# Altium schematic symbol library ДИОДЫ-MM.SchLib: 57 symbols
Pins are listed as number, name and electrical type; pins without a type are passive.

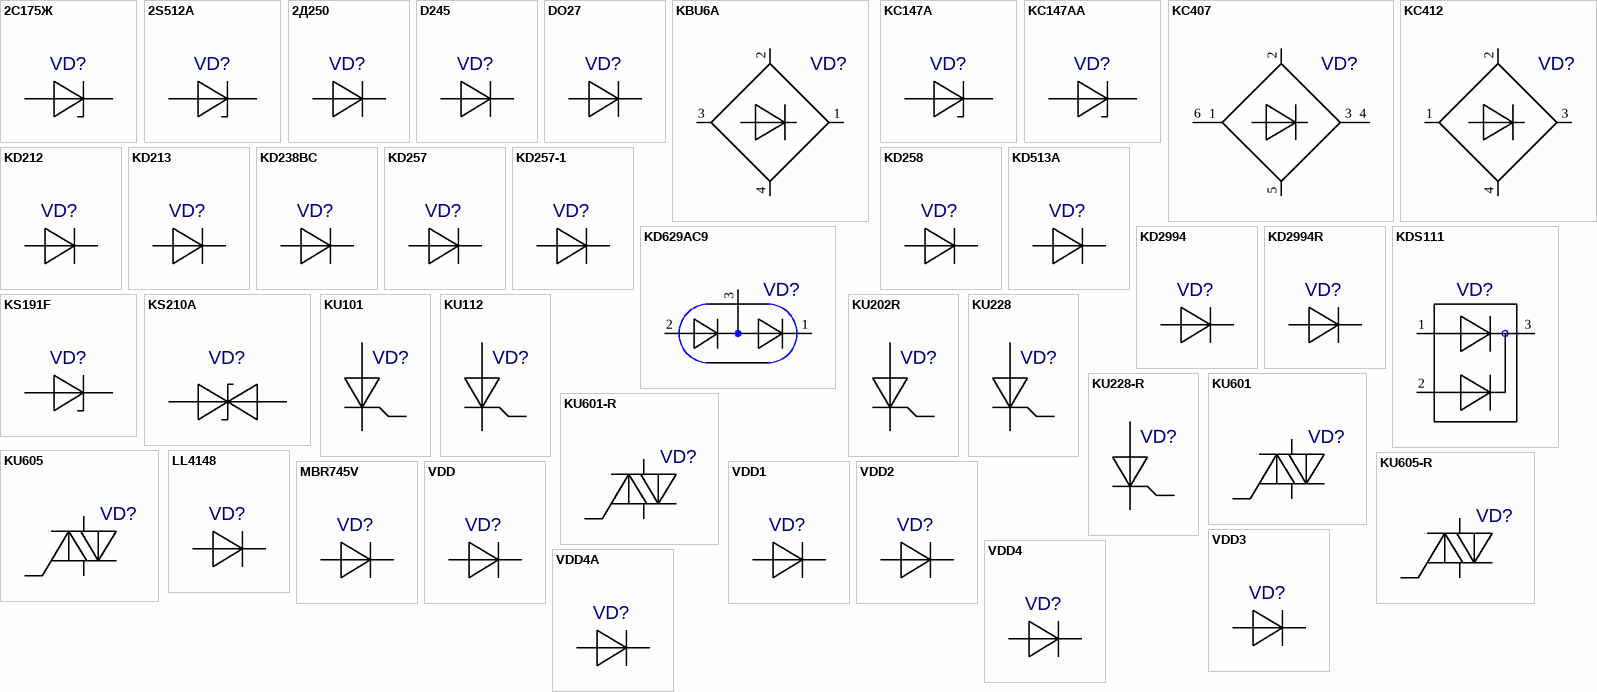
[diagram p0: symbols 2C175Ж to VDD4A]

## 2C175Ж
designator VD?  (value not drawn)
Value: *
footprint VDD8
pins: 1 I/O1, 2 I/O2

## 2S512A
designator VD?  (value not drawn)
Value: *
footprint 2S512A
pins: 1 I/O1, 2 I/O2

## 2Д250
designator VD?  (value not drawn)
Value: *
footprint 2Д5202Д250Primary
pins: 1 I/O2, 2 I/O1

## D245
designator VD?  (value not drawn)
Value: *
footprint D245
pins: 1 I/O1, 2 I/O2

## DO27
designator VD?  (value not drawn)
Value: *
footprint DO27DO27Primary
pins: 1 I/O1, 2 I/O2

## KBU6A
designator VD?  (value not drawn)
Value: *
footprint KBU6A
pins: 1, 2, 3, 4

## KC147A
designator VD?  (value not drawn)
Value: *
footprint VDD8
pins: 1 I/O1, 2 I/O2

## KC147AA
designator VD?  (value not drawn)
Value: *
footprint VDD11
pins: 1 I/O1, 2 I/O2

## KC407
designator VD?  (value not drawn)
Value: *
footprint KC407
pins: 1 I/O1, 2 I/O2, 3 I/O3, 4 I/O4, 5 I/O5, 6 I/O6

## KC412
designator VD?  (value not drawn)
Value: *
footprint KC412
pins: 1 I/O1, 2 I/O2, 3 I/O3, 4 I/O4

## KD212
designator VD?  (value not drawn)
Value: *
footprint KD212
pins: 1 I/O1, 2 I/O2

## KD213
designator VD?  (value not drawn)
Value: *
footprint KD213
pins: 1 I/O1, 2 I/O2

## KD238BC
designator VD?  (value not drawn)
Value: *
footprint KT28-1
pins: 1 I/O2, 2 I/O1, 3 hidden

## KD257
designator VD?  (value not drawn)
Value: *
footprint KD257
pins: 1 I/O1, 2 I/O2

## KD257-1
designator VD?  (value not drawn)
Value: *
footprint KD257-1
pins: 1 I/O1, 2 I/O2

## KD258
designator VD?  (value not drawn)
Value: *
footprint KD258
pins: 1 I/O1, 2 I/O2

## KD513A
designator VD?  (value not drawn)
Value: *
footprint KD513A
pins: 1 I/O1, 2 I/O2

## KD629AC9
designator VD?  (value not drawn)
Value: *
footprint SOT23A
pins: 1, 2, 3

## KD2994
designator VD?  (value not drawn)
Value: *
footprint KD2994
pins: 1 I/O1, 2 I/O2

## KD2994R
designator VD?  (value not drawn)
Value: *
footprint KD2994R
pins: 1 I/O1, 2 I/O2, 3 hidden

## KDS111
designator VD?  (value not drawn)
Value: *
footprint KDS111
pins: 1 I/O1, 2 I/O2, 3 I/O3

## KS191F
designator VD?  (value not drawn)
Value: *
footprint KS191F
pins: 1 I/O1, 2 I/O2

## KS210A
designator VD?  (value not drawn)
Value: *
footprint KS210A
pins: 1 I/O1, 2 I/O2

## KU101
designator VD?  (value not drawn)
Value: *
footprint KU101
pins: 1 I/OA, 2 I/OB, 3 IN

## KU112
designator VD?  (value not drawn)
Value: *
footprint KU112
pins: 1 I/OA, 2 I/OB, 3 IN

## KU202R
designator VD?  (value not drawn)
Value: *
footprint KU202R
pins: 1 I/OA, 2 I/OB, 3 IN, 4 hidden, 5 hidden

## KU228
designator VD?  (value not drawn)
Value: *
footprint KT28-1
pins: 1 I/OA, 2 I/OB, 3 IN

## KU228-R
designator VD?  (value not drawn)
Value: *
footprint KT28R-1
pins: 1 I/OA, 2 I/OB, 3 IN, 4 hidden

## KU601
designator VD?  (value not drawn)
Value: *
footprint KT28-1
pins: 1 I/OA, 2 I/OB, 3 IN

## KU601-R
designator VD?  (value not drawn)
Value: *
footprint KT28R-1
pins: 1 I/OA, 2 I/OB, 3 IN, 4 hidden

## KU605
designator VD?  (value not drawn)
Value: *
footprint KT28-1
pins: 1 I/OA, 2 I/OB, 3 IN

## KU605-R
designator VD?  (value not drawn)
Value: *
footprint KT28R-1
pins: 1 I/OA, 2 I/OB, 3 IN, 4 hidden

## LL4148
designator VD?  (value not drawn)
Value: *
footprint LL4148
pins: 1 I/O1, 2 I/O2

## MBR745V
designator VD?  (value not drawn)
Value: *
footprint MBR745V
pins: 1 I/O2, 2 I/O1

## VDD
designator VD?  (value not drawn)
Value: *
footprint VDD
pins: 1 I/O1, 2 I/O2

## VDD1
designator VD?  (value not drawn)
Value: *
footprint VDD1
pins: 1 I/O1, 2 I/O2

## VDD2
designator VD?  (value not drawn)
Value: *
footprint VDD2
pins: 1 I/O1, 2 I/O2

## VDD3
designator VD?  (value not drawn)
Value: *
footprint VDD3
pins: 1 I/O1, 2 I/O2

## VDD4
designator VD?  (value not drawn)
Value: *
footprint VDD4
pins: 1 I/O1, 2 I/O2

## VDD4A
designator VD?  (value not drawn)
Value: *
footprint VDD4A
pins: 1 I/O1, 2 I/O2

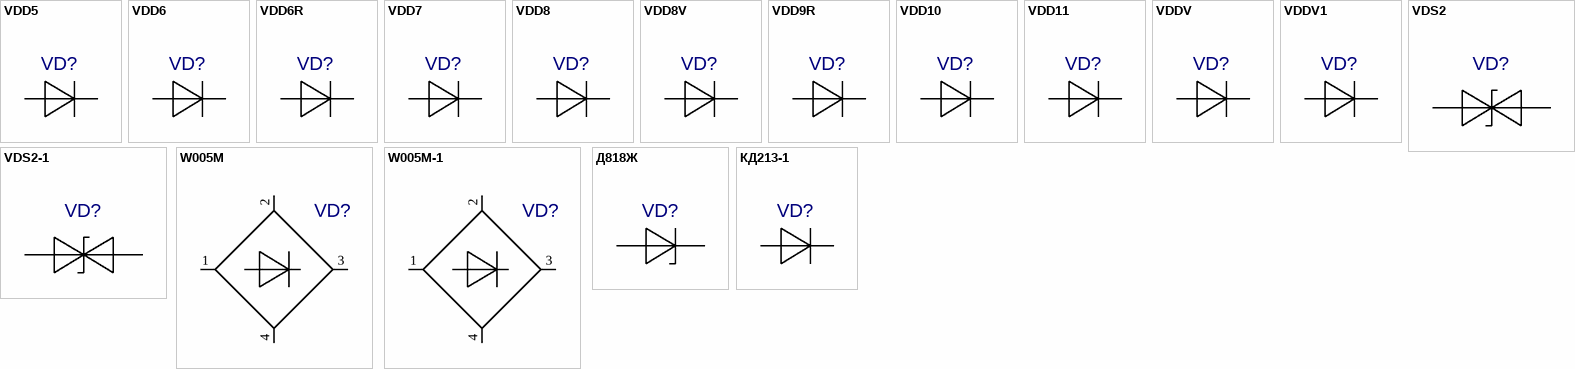
[diagram p1: symbols VDD5 to КД213-1]

## VDD5
designator VD?  (value not drawn)
Value: *
footprint VDD5
pins: 1 I/O1, 2 I/O2

## VDD6
designator VD?  (value not drawn)
Value: *
footprint VDD6
pins: 1 I/O1, 2 I/O2

## VDD6R
designator VD?  (value not drawn)
Value: *
footprint VDD6R
pins: 1 I/O1, 2 I/O2

## VDD7
designator VD?  (value not drawn)
Value: *
footprint VDD7
pins: 1 I/O1, 2 I/O2

## VDD8
designator VD?  (value not drawn)
Value: *
footprint VDD8
pins: 1 I/O1, 2 I/O2

## VDD8V
designator VD?  (value not drawn)
Value: *
footprint VDD8V
pins: 1 I/O1, 2 I/O2

## VDD9R
designator VD?  (value not drawn)
Value: *
footprint VDD9R
pins: 1 I/O1, 2 I/O2, 3 hidden

## VDD10
designator VD?  (value not drawn)
Value: *
footprint VDD10
pins: 1 I/O1, 2 I/O2

## VDD11
designator VD?  (value not drawn)
Value: *
footprint VDD11
pins: 1 I/O1, 2 I/O2

## VDDV
designator VD?  (value not drawn)
Value: *
footprint VDDV
pins: 1 I/O1, 2 I/O2

## VDDV1
designator VD?  (value not drawn)
Value: *
footprint VDDV1
pins: 1 I/O1, 2 I/O2

## VDS2
designator VD?  (value not drawn)
Value: *
footprint VDS2
pins: 1 I/O1, 2 I/O2

## VDS2-1
designator VD?  (value not drawn)
Value: *
footprint VDS2-1
pins: 1 I/O1, 2 I/O2

## W005M
designator VD?  (value not drawn)
Value: *
footprint W005M
pins: 1 I/O1, 2 I/O2, 3 I/O3, 4 I/O4

## W005M-1
designator VD?  (value not drawn)
Value: *
footprint W005M-1
pins: 1 I/O1, 2 I/O2, 3 I/O3, 4 I/O4

## Д818Ж
designator VD?  (value not drawn)
Value: *
footprint VDD10
pins: 1 I/O1, 2 I/O2

## КД213-1
designator VD?  (value not drawn)
Value: *
footprint КД213-1
pins: 1 I/O1, 2 I/O2